# EAGLE library part G6A-434P (library relay-mod)
RELAY 4 x switch, 0.3 A/125 V AC, 1 A/30 V DC, Omron
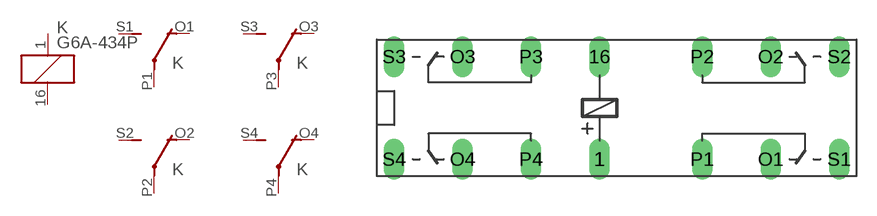
[diagram p7: symbol with the pads of G6A-434P; footprint G6A-434P]

Designator prefix K; gates 1=K 2=U 3=U 4=U 5=U

## G6A-434P (OC_FARNELL: unknown; OC_NEWARK: unknown)  [G6A-434P]
1  1:1  pas
16  1:2  pas
O1  2:O  pas
O2  3:O  pas
O3  4:O  pas
O4  5:O  pas
P1  2:P  pas
P2  3:P  pas
P3  4:P  pas
P4  5:P  pas
S1  2:S  pas
S2  3:S  pas
S3  4:S  pas
S4  5:S  pas

## Footprint G6A-434P (pad centres in mm)
RELAY 4 x switch, 0.3 A/125 V AC, 1 A/30 V DC, Omron
drill 1.016 long: 1 3.81,-3.81; 16 3.81,3.81; O1 16.51,-3.81; O2 16.51,3.81; O3 -6.35,3.81; O4 -6.35,-3.81; P1 11.43,-3.81; P2 11.43,3.81; P3 -1.27,3.81; P4 -1.27,-3.81; S1 21.59,-3.81; S2 21.59,3.81; S3 -11.43,3.81; S4 -11.43,-3.81